# Altium footprint library MergenElektronik_Modules_GPS.PcbLib: 1 footprints
Each footprint in its own frame and in the unit in brackets; x right, y up, seen from the top. Pads: shape width x height; smd on the part's side, far side on the other; paste and mask are expansions set on the pad; w line width, h text height; cw(c..) or ccw(c..) is an arc to the next point about the centre after c.
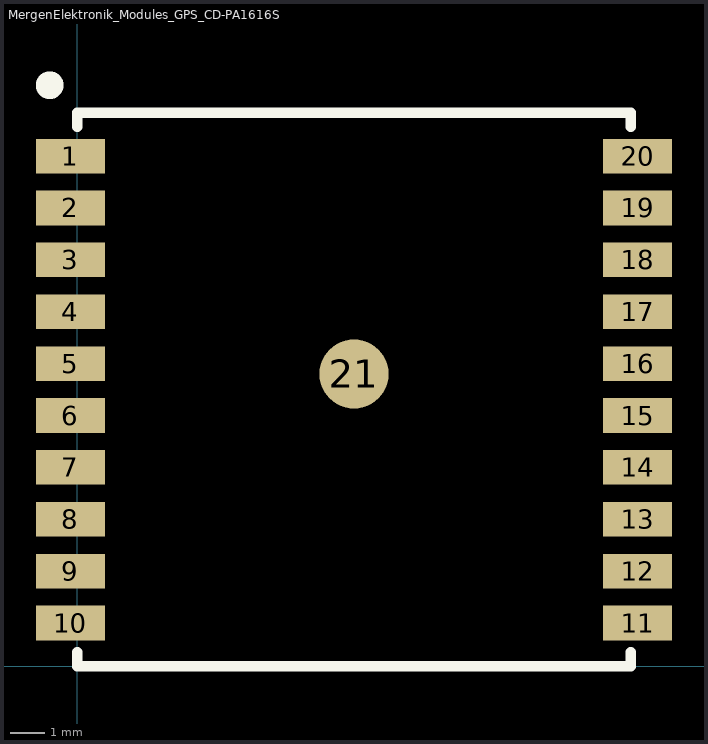
[diagram p0: the footprint, top view; thin cyan lines are the x and y axes]

## MergenElektronik_Modules_GPS_CD-PA1616S [mm] "CD-PA1616S"
pads (21):
  rect 2x1 smd: 1(-0.2,14.75) 2(-0.2,13.25) 3(-0.2,11.75) 4(-0.2,10.25) 5(-0.2,8.75) 6(-0.2,7.25) 7(-0.2,5.75) 8(-0.2,4.25) 9(-0.2,2.75) 10(-0.2,1.25) 11(16.2,1.25) 12(16.2,2.75) 13(16.2,4.25) 14(16.2,5.75) 15(16.2,7.25) 16(16.2,8.75) 17(16.2,10.25) 18(16.2,11.75) 19(16.2,13.25) 20(16.2,14.75)
  round 2 smd: 21(8,8.45)
Top Overlay:
  circle w0.6: c-0.8,16.8 r0.1
  lines w0.3: 0,0.4 0,0 16,0 16,0.4 ; 0,15.6 0,16 16,16 16,15.6
3D body "GPS.step": height 5.1, standoff 0, extent 0,0 16,16